# EAGLE library part TR-1PRI-1SEC-2CT (library transformers)
Transformer, 1x primary, 1x secondary, both with center tap
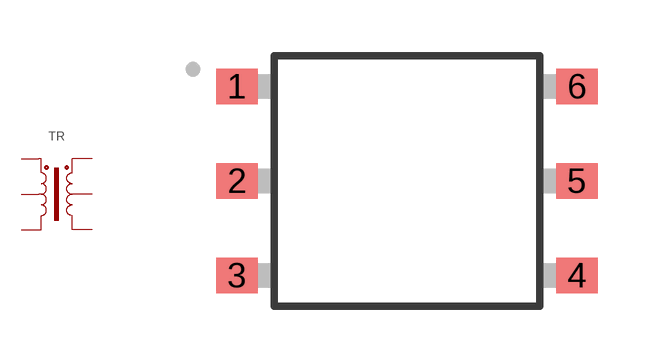
[diagram p0: symbol with the pads of TR-WURTH-760390011; footprint TR-WURTH-760390011]

Designator prefix TR

## TR-1PRI-1SEC-2CT  [TR-WURTH-760390011]
1  PRI1  pas
2  PRI2  pas
3  PRI3  pas
4  SEC3  pas
5  SEC2  pas
6  SEC1  pas

## Footprint TR-WURTH-760390011 (pad centres in mm)
Würth Elektronik part no. 760390011 -- 1pri 1sec transformer, center taps on both sides Mechanical drawing <http://katalog.we-online.de/ctm/datasheet/760390011.pdf>
smd 1.12 x 0.96: 1 -4.57,2.54; 2 -4.57,0; 3 -4.57,-2.54; 4 4.57,-2.54; 5 4.57,0; 6 4.57,2.54